# Altium footprint library ICs.PcbLib: 86 footprints (part 4 of 6)
Each footprint in its own frame and in the unit in brackets; x right, y up, seen from the top. Pads: shape width x height; smd on the part's side, far side on the other; paste and mask are expansions set on the pad; w line width, h text height; cw(c..) or ccw(c..) is an arc to the next point about the centre after c.
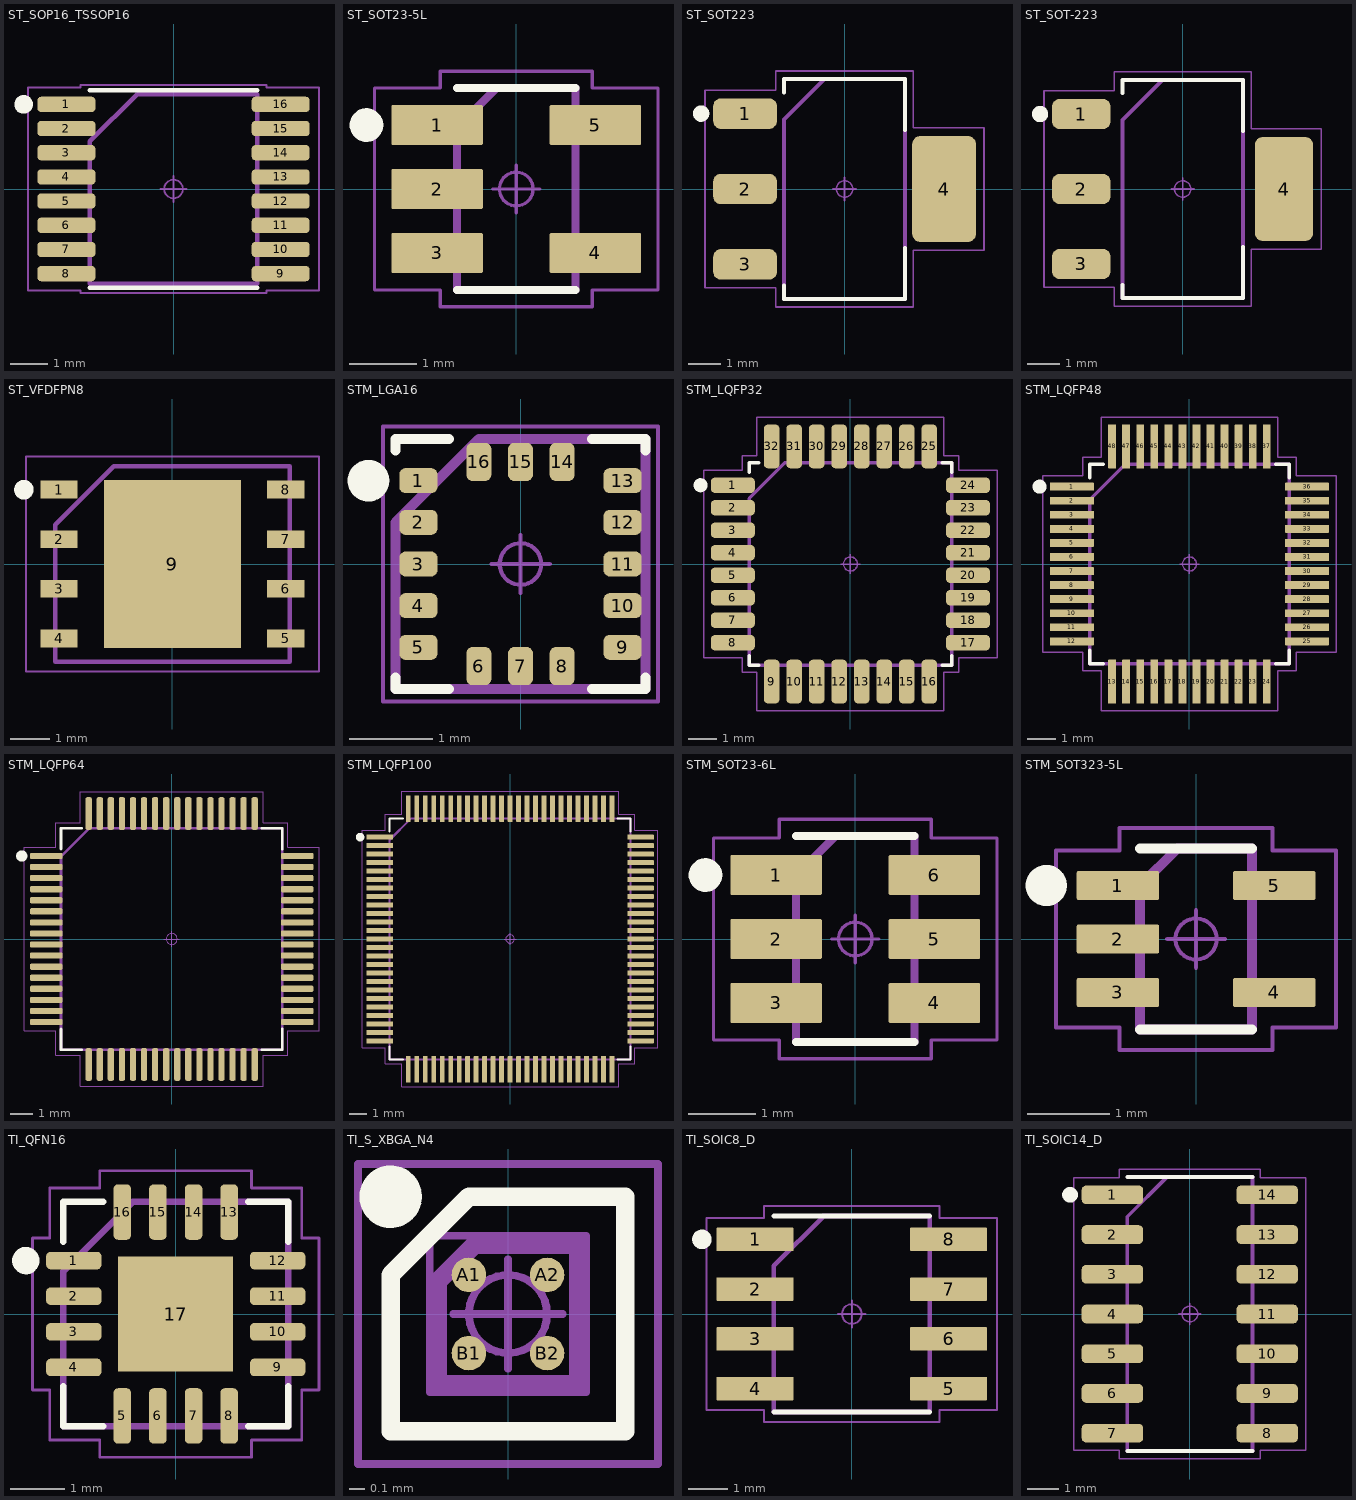
[diagram p3: the footprints below, top view; thin cyan lines are the x and y axes]

## ST_SOP16_TSSOP16 [mm]
pads (16):
  rrect49% 1.56x0.41 smd: 1(-2.88,2.275) 2(-2.88,1.625) 3(-2.88,0.975) 4(-2.88,0.325) 5(-2.88,-0.325) 6(-2.88,-0.975) 7(-2.88,-1.625) 8(-2.88,-2.275) 9(2.88,-2.275) 10(2.88,-1.625) 11(2.88,-0.975) 12(2.88,-0.325) 13(2.88,0.325) 14(2.88,0.975) 15(2.88,1.625) 16(2.88,2.275)
Top Overlay:
  circle w0.25: c-4.03,2.275 r0.125
  lines w0.12: -2.25,-2.66 2.25,-2.66 ; -2.25,2.66 2.25,2.66
Mechanical 11:
  lines w0.12: -2.25,-2.55 2.25,-2.55 2.25,2.55 -0.98,2.55 -2.25,1.28 -2.25,-2.55
  text ".Designator" at -2.252,-0.226 h1
Mechanical 15:
  circle w0.05: c0,0 r0.25
  lines w0.05: -0.35,0 0.35,0 ; 0,-0.35 0,0.35 ; -3.91,-2.73 -2.5,-2.73 -2.5,-2.8 2.5,-2.8 2.5,-2.73 3.91,-2.73 3.91,2.73 2.5,2.73 2.5,2.8 -2.5,2.8 -2.5,2.73 -3.91,2.73 -3.91,-2.73
3D body "SOP16P65_500X640X120L60X24.STEP": height 1.2, standoff 0, extent -3.3,-2.55 3.3,2.55

## ST_SOT23-5L [mm] "Small Outline Transistor (SOT23), 0.95 mm pitch; 5 pin, 2.90 mm L X 1.625 mm W X 1.45 mm H body"
pads (5):
  rrect10% 1.36x0.6 smd: 1(-1.175,0.95) 2(-1.175,0) 3(-1.175,-0.95) 4(1.175,-0.95) 5(1.175,0.95)
Top Overlay:
  circle w0.25: c-2.225,0.95 r0.125
  lines w0.12: -0.88,-1.5 0.88,-1.5 ; -0.88,1.5 0.88,1.5
Mechanical 11:
  lines w0.12: -0.88,-1.5 -0.88,0.913 -0.293,1.5 0.88,1.5 0.88,-1.5 -0.88,-1.5
  text ".Designator" at -2.252,-0.226 h1
Mechanical 15:
  circle w0.05: c0,0 r0.25
  lines w0.05: -0.35,0 0.35,0 ; 0,-0.35 0,0.35 ; -2.105,-1.5 -2.105,1.5 -1.13,1.5 -1.13,1.75 1.13,1.75 1.13,1.5 2.105,1.5 2.105,-1.5 1.13,-1.5 1.13,-1.75 -1.13,-1.75 -1.13,-1.5 -2.105,-1.5
3D body "ST_SOT23-5L.STEP": height 1.45, standoff 0, extent -1.5,-1.5 1.5,1.5

## ST_SOT223 [mm] "Small Outline Transistor (SOT223), 2.30 mm pitch; 4 pin, 6.50 mm L X 3.50 mm W X 1.90 mm H body"
pads (4):
  rrect49% 1.94x0.93 smd: 1(-3.035,2.3) 2(-3.035,0) 3(-3.035,-2.3)
  rrect24% 1.94x3.23 smd: 4(3.035,0)
Top Overlay:
  circle w0.25: c-4.375,2.3 r0.125
  lines w0.12: -1.85,-2.945 -1.85,-3.35 1.85,-3.35 1.85,-1.795 ; -1.85,2.945 -1.85,3.35 1.85,3.35 1.85,1.795
Mechanical 11:
  lines w0.12: -1.85,-3.35 1.85,-3.35 1.85,3.35 -0.617,3.35 -1.85,2.117 -1.85,-3.35
  text ".Designator" at -0.226,2.252 h1
Mechanical 15:
  circle w0.05: c0,0 r0.25
  lines w0.05: -0.35,0 0.35,0 ; 0,-0.35 0,0.35 ; -4.255,-3.015 -2.1,-3.015 -2.1,-3.6 2.1,-3.6 2.1,-1.865 4.255,-1.865 4.255,1.865 2.1,1.865 2.1,3.6 -2.1,3.6 -2.1,3.015 -4.255,3.015 -4.255,-3.015
3D body "SOT223-4P230_700X190L92X72.STEP": height 1.9, standoff 0, extent -3.5,-3.25 3.5,3.25

## ST_SOT-223 [mm]
pads (4):
  rrect49% 1.79x0.93 smd: 1(-3.11,2.3) 2(-3.11,0) 3(-3.11,-2.3)
  rrect26% 1.79x3.19 smd: 4(3.11,0)
Top Overlay:
  circle w0.25: c-4.375,2.3 r0.125
  lines w0.12: -1.85,-2.945 -1.85,-3.35 1.85,-3.35 1.85,-1.775 ; -1.85,2.945 -1.85,3.35 1.85,3.35 1.85,1.775
Mechanical 11:
  lines w0.12: -1.85,-3.35 -1.85,2.117 -0.617,3.35 1.85,3.35 1.85,-3.35 -1.85,-3.35
  text ".Designator" at -2.252,-0.193 h1
Mechanical 15:
  circle w0.05: c0,0 r0.25
  lines w0.05: -0.35,0 0.35,0 ; 0,-0.35 0,0.35 ; -4.255,-3.015 -4.255,3.015 -2.1,3.015 -2.1,3.6 2.1,3.6 2.1,1.845 4.255,1.845 4.255,-1.845 2.1,-1.845 2.1,-3.6 -2.1,-3.6 -2.1,-3.015 -4.255,-3.015
3D body "SOT223-4P230_700X180L77X75.STEP": height 1.8, standoff 0, extent -3.5,-3.25 3.5,3.25

## ST_VFDFPN8 [mm] "Case for esim"
pads (9):
  rect 0.95x0.45 smd: 1(-2.9,1.905) 2(-2.9,0.635) 3(-2.9,-0.635) 4(-2.9,-1.905) 5(2.9,-1.905) 6(2.9,-0.635) 7(2.9,0.635) 8(2.9,1.905)
  rect 3.5x4.3 smd: 9(0,0)
Top Overlay:
  circle w0.25: c-3.8,1.9 r0.125
Mechanical 11:
  lines w0.12: -3,-2.5 -3,1 -1.5,2.5 3,2.5 3,-2.5 -3,-2.5
  text ".Designator" at -2.252,-0.193 h1
Mechanical 15:
  circle w0.05: c0,0 r0.25
  lines w0.05: -0.35,0 0.35,0 ; 0,-0.35 0,0.35 ; -3.75,-2.75 -3.75,2.75 3.75,2.75 3.75,-2.75 -3.75,-2.75
3D body "ST4SIM-200M_VFDFPN8_.stp": height 1, standoff 0, extent -3.05,-2.5 3.05,2.5

## STM_LGA16 [mm] "Pullback Quad Flat No-Lead (PQFN), 0.50 mm pitch; square, 5 pin X 3 pin, 3.00 mm L X 3.00 mm W X 1.00 mm H body"
pads (16):
  rrect51% 0.46x0.3 smd: 1(-1.225,1) 2(-1.225,0.5) 3(-1.225,0) 4(-1.225,-0.5) 5(-1.225,-1) 9(1.225,-1) 10(1.225,-0.5) 11(1.225,0) 12(1.225,0.5) 13(1.225,1)
  rrect51% 0.3x0.46 smd: 6(-0.5,-1.225) 7(0,-1.225) 8(0.5,-1.225) 14(0.5,1.225) 15(0,1.225) 16(-0.5,1.225)
Top Overlay:
  circle w0.25: c-1.825,1 r0.125
  lines w0.12: -1.5,-1.36 -1.5,-1.5 -0.86,-1.5 ; -1.5,1.36 -1.5,1.5 -0.86,1.5 ; 0.86,-1.5 1.5,-1.5 1.5,-1.36 ; 0.86,1.5 1.5,1.5 1.5,1.36
Mechanical 11:
  lines w0.12: -1.5,-1.5 1.5,-1.5 1.5,1.5 -0.5,1.5 -1.5,0.5 -1.5,-1.5
  text ".Designator" at -1.126,-0.113 h0.5
Mechanical 15:
  circle w0.05: c0,0 r0.25
  lines w0.05: -0.35,0 0.35,0 ; 0,-0.35 0,0.35 ; -1.65,-1.65 -1.65,1.65 1.65,1.65 1.65,-1.65 -1.65,-1.65
3D body "STM_LGA16.STEP": height 1, standoff 0, extent -1.5,-1.5 1.5,1.5

## STM_LQFP32 [mm] "Quad Flat Pack (QFP), 0.80 mm pitch; square, 8 pin X 8 pin, 7.00 mm L X 7.00 mm W X 1.60 mm H body"
pads (32):
  rrect51% 1.56x0.55 smd: 1(-4.18,2.8) 2(-4.18,2) 3(-4.18,1.2) 4(-4.18,0.4) 5(-4.18,-0.4) 6(-4.18,-1.2) 7(-4.18,-2) 8(-4.18,-2.8) 17(4.18,-2.8) 18(4.18,-2) 19(4.18,-1.2) 20(4.18,-0.4) 21(4.18,0.4) 22(4.18,1.2) 23(4.18,2) 24(4.18,2.8)
  rrect51% 0.55x1.56 smd: 9(-2.8,-4.18) 10(-2,-4.18) 11(-1.2,-4.18) 12(-0.4,-4.18) 13(0.4,-4.18) 14(1.2,-4.18) 15(2,-4.18) 16(2.8,-4.18) 25(2.8,4.18) 26(2,4.18) 27(1.2,4.18) 28(0.4,4.18) 29(-0.4,4.18) 30(-1.2,4.18) 31(-2,4.18) 32(-2.8,4.18)
Top Overlay:
  circle w0.25: c-5.33,2.8 r0.125
  lines w0.12: -3.6,-3.26 -3.6,-3.6 -3.26,-3.6 ; -3.6,3.26 -3.6,3.6 -3.26,3.6 ; 3.26,-3.6 3.6,-3.6 3.6,-3.26 ; 3.26,3.6 3.6,3.6 3.6,3.26
Mechanical 11:
  lines w0.12: -3.6,-3.6 -3.6,2.33 -2.33,3.6 3.6,3.6 3.6,-3.6 -3.6,-3.6
  text ".Designator" at -2.252,-0.226 h1
Mechanical 15:
  circle w0.05: c0,0 r0.25
  lines w0.05: -0.35,0 0.35,0 ; 0,-0.35 0,0.35 ; -5.21,-3.325 -5.21,3.325 -3.85,3.325 -3.85,3.85 -3.325,3.85 -3.325,5.21 3.325,5.21 3.325,3.85 3.85,3.85 3.85,3.325 5.21,3.325 5.21,-3.325 3.85,-3.325 3.85,-3.85 3.325,-3.85 3.325,-5.21 -3.325,-5.21 -3.325,-3.85 -3.85,-3.85 -3.85,-3.325 -5.21,-3.325
3D body "QFP32P80_900X900X160L60X37.STEP": height 1.6, standoff 0, extent -4.6,-4.6 4.6,4.6

## STM_LQFP48 [mm] "Quad Flat Pack (QFP), 0.50 mm pitch; square, 12 pin X 12 pin, 7.00 mm L X 7.00 mm W X 1.60 mm H body"
pads (48):
  rrect10% 1.56x0.28 smd: 1(-4.18,2.75) 2(-4.18,2.25) 3(-4.18,1.75) 4(-4.18,1.25) 5(-4.18,0.75) 6(-4.18,0.25) 7(-4.18,-0.25) 8(-4.18,-0.75) 9(-4.18,-1.25) 10(-4.18,-1.75) 11(-4.18,-2.25) 12(-4.18,-2.75) 25(4.18,-2.75) 26(4.18,-2.25) 27(4.18,-1.75) 28(4.18,-1.25) 29(4.18,-0.75) 30(4.18,-0.25) 31(4.18,0.25) 32(4.18,0.75) 33(4.18,1.25) 34(4.18,1.75) 35(4.18,2.25) 36(4.18,2.75)
  rrect10% 0.28x1.56 smd: 13(-2.75,-4.18) 14(-2.25,-4.18) 15(-1.75,-4.18) 16(-1.25,-4.18) 17(-0.75,-4.18) 18(-0.25,-4.18) 19(0.25,-4.18) 20(0.75,-4.18) 21(1.25,-4.18) 22(1.75,-4.18) 23(2.25,-4.18) 24(2.75,-4.18) 37(2.75,4.18) 38(2.25,4.18) 39(1.75,4.18) 40(1.25,4.18) 41(0.75,4.18) 42(0.25,4.18) 43(-0.25,4.18) 44(-0.75,4.18) 45(-1.25,4.18) 46(-1.75,4.18) 47(-2.25,4.18) 48(-2.75,4.18)
Top Overlay:
  circle w0.25: c-5.33,2.75 r0.125
  lines w0.12: -3.55,-3.07 -3.55,-3.55 -3.07,-3.55 ; -3.55,3.07 -3.55,3.55 -3.07,3.55 ; 3.07,-3.55 3.55,-3.55 3.55,-3.07 ; 3.07,3.55 3.55,3.55 3.55,3.07
Mechanical 11:
  lines w0.12: -3.55,-3.55 -3.55,2.28 -2.28,3.55 3.55,3.55 3.55,-3.55 -3.55,-3.55
  text ".Designator" at -4.511,-0.453 h2
Mechanical 15:
  circle w0.05: c0,0 r0.25
  lines w0.05: -0.35,0 0.35,0 ; 0,-0.35 0,0.35 ; -5.21,-3.14 -5.21,3.14 -3.8,3.14 -3.8,3.8 -3.14,3.8 -3.14,5.21 3.14,5.21 3.14,3.8 3.8,3.8 3.8,3.14 5.21,3.14 5.21,-3.14 3.8,-3.14 3.8,-3.8 3.14,-3.8 3.14,-5.21 -3.14,-5.21 -3.14,-3.8 -3.8,-3.8 -3.8,-3.14 -5.21,-3.14
3D body "WIZNET_LQFP48.STEP": height 1.6, standoff 0, extent -4.6,-4.6 4.6,4.6

## STM_LQFP64 [mm] "Quad Flat Pack (QFP), 0.50 mm pitch; square, 16 pin X 16 pin, 10.00 mm L X 10.00 mm W X 1.60 mm H body"
pads (64):
  rrect50% 1.47x0.28 smd: 1(-5.67,3.75) 2(-5.67,3.25) 3(-5.67,2.75) 4(-5.67,2.25) 5(-5.67,1.75) 6(-5.67,1.25) 7(-5.67,0.75) 8(-5.67,0.25) 9(-5.67,-0.25) 10(-5.67,-0.75) 11(-5.67,-1.25) 12(-5.67,-1.75) 13(-5.67,-2.25) 14(-5.67,-2.75) 15(-5.67,-3.25) 16(-5.67,-3.75) 33(5.67,-3.75) 34(5.67,-3.25) 35(5.67,-2.75) 36(5.67,-2.25) 37(5.67,-1.75) 38(5.67,-1.25) 39(5.67,-0.75) 40(5.67,-0.25) 41(5.67,0.25) 42(5.67,0.75) 43(5.67,1.25) 44(5.67,1.75) 45(5.67,2.25) 46(5.67,2.75) 47(5.67,3.25) 48(5.67,3.75)
  rrect50% 0.28x1.47 smd: 17(-3.75,-5.67) 18(-3.25,-5.67) 19(-2.75,-5.67) 20(-2.25,-5.67) 21(-1.75,-5.67) 22(-1.25,-5.67) 23(-0.75,-5.67) 24(-0.25,-5.67) 25(0.25,-5.67) 26(0.75,-5.67) 27(1.25,-5.67) 28(1.75,-5.67) 29(2.25,-5.67) 30(2.75,-5.67) 31(3.25,-5.67) 32(3.75,-5.67) 49(3.75,5.67) 50(3.25,5.67) 51(2.75,5.67) 52(2.25,5.67) 53(1.75,5.67) 54(1.25,5.67) 55(0.75,5.67) 56(0.25,5.67) 57(-0.25,5.67) 58(-0.75,5.67) 59(-1.25,5.67) 60(-1.75,5.67) 61(-2.25,5.67) 62(-2.75,5.67) 63(-3.25,5.67) 64(-3.75,5.67)
Top Overlay:
  circle w0.25: c-6.775,3.75 r0.125
  lines w0.12: -5,-4.07 -5,-5 -4.07,-5 ; -5,4.07 -5,5 -4.07,5 ; 4.07,-5 5,-5 5,-4.07 ; 4.07,5 5,5 5,4.07
Mechanical 11:
  lines w0.12: -5,-5 -5,3.73 -3.73,5 5,5 5,-5 -5,-5
  text ".Designator" at -4.511,-0.453 h2
Mechanical 15:
  circle w0.05: c0,0 r0.25
  lines w0.05: -0.35,0 0.35,0 ; 0,-0.35 0,0.35 ; -6.655,-4.14 -6.655,4.14 -5.25,4.14 -5.25,5.25 -4.14,5.25 -4.14,6.655 4.14,6.655 4.14,5.25 5.25,5.25 5.25,4.14 6.655,4.14 6.655,-4.14 5.25,-4.14 5.25,-5.25 4.14,-5.25 4.14,-6.655 -4.14,-6.655 -4.14,-5.25 -5.25,-5.25 -5.25,-4.14 -6.655,-4.14
3D body "QFP64P50_1200X1200X160L60X22.STEP": height 1.6, standoff 0, extent -6,-6 6,6

## STM_LQFP100 [mm] "Quad Flat Pack (QFP), 0.50 mm pitch; square, 25 pin X 25 pin, 14.00 mm L X 14.00 mm W X 1.60 mm H body"
pads (100):
  rrect10% 1.56x0.28 smd: 1(-7.68,6) 2(-7.68,5.5) 3(-7.68,5) 4(-7.68,4.5) 5(-7.68,4) 6(-7.68,3.5) 7(-7.68,3) 8(-7.68,2.5) 9(-7.68,2) 10(-7.68,1.5) 11(-7.68,1) 12(-7.68,0.5) 13(-7.68,0) 14(-7.68,-0.5) 15(-7.68,-1) 16(-7.68,-1.5) 17(-7.68,-2) 18(-7.68,-2.5) 19(-7.68,-3) 20(-7.68,-3.5) 21(-7.68,-4) 22(-7.68,-4.5) 23(-7.68,-5) 24(-7.68,-5.5) 25(-7.68,-6) 51(7.68,-6) 52(7.68,-5.5) 53(7.68,-5) 54(7.68,-4.5) 55(7.68,-4) 56(7.68,-3.5) 57(7.68,-3) 58(7.68,-2.5) 59(7.68,-2) 60(7.68,-1.5) 61(7.68,-1) 62(7.68,-0.5) 63(7.68,0) 64(7.68,0.5) 65(7.68,1) 66(7.68,1.5) 67(7.68,2) 68(7.68,2.5) 69(7.68,3) 70(7.68,3.5) 71(7.68,4) 72(7.68,4.5) 73(7.68,5) 74(7.68,5.5) 75(7.68,6)
  rrect10% 0.28x1.56 smd: 26(-6,-7.68) 27(-5.5,-7.68) 28(-5,-7.68) 29(-4.5,-7.68) 30(-4,-7.68) 31(-3.5,-7.68) 32(-3,-7.68) 33(-2.5,-7.68) 34(-2,-7.68) 35(-1.5,-7.68) 36(-1,-7.68) 37(-0.5,-7.68) 38(0,-7.68) 39(0.5,-7.68) 40(1,-7.68) 41(1.5,-7.68) 42(2,-7.68) 43(2.5,-7.68) 44(3,-7.68) 45(3.5,-7.68) 46(4,-7.68) 47(4.5,-7.68) 48(5,-7.68) 49(5.5,-7.68) 50(6,-7.68) 76(6,7.68) 77(5.5,7.68) 78(5,7.68) 79(4.5,7.68) 80(4,7.68) 81(3.5,7.68) 82(3,7.68) 83(2.5,7.68) 84(2,7.68) 85(1.5,7.68) 86(1,7.68) 87(0.5,7.68) 88(0,7.68) 89(-0.5,7.68) 90(-1,7.68) 91(-1.5,7.68) 92(-2,7.68) 93(-2.5,7.68) 94(-3,7.68) 95(-3.5,7.68) 96(-4,7.68) 97(-4.5,7.68) 98(-5,7.68) 99(-5.5,7.68) 100(-6,7.68)
Top Overlay:
  circle w0.25: c-8.83,6 r0.125
  lines w0.12: -7.1,-6.32 -7.1,-7.1 -6.32,-7.1 ; -7.1,6.32 -7.1,7.1 -6.32,7.1 ; 6.32,-7.1 7.1,-7.1 7.1,-6.32 ; 6.32,7.1 7.1,7.1 7.1,6.32
Mechanical 11:
  lines w0.12: -7.1,-7.1 -7.1,5.83 -5.83,7.1 7.1,7.1 7.1,-7.1 -7.1,-7.1
  text ".Designator" at -4.511,-0.453 h2
Mechanical 15:
  circle w0.05: c0,0 r0.25
  lines w0.05: -0.35,0 0.35,0 ; 0,-0.35 0,0.35 ; -8.71,-6.39 -8.71,6.39 -7.35,6.39 -7.35,7.35 -6.39,7.35 -6.39,8.71 6.39,8.71 6.39,7.35 7.35,7.35 7.35,6.39 8.71,6.39 8.71,-6.39 7.35,-6.39 7.35,-7.35 6.39,-7.35 6.39,-8.71 -6.39,-8.71 -6.39,-7.35 -7.35,-7.35 -7.35,-6.39 -8.71,-6.39
3D body "STM_LQFP100.STEP": height 1.6, standoff 0, extent -8.1,-8.1 8.1,8.1

## STM_SOT23-6L [mm] "Small Outline Transistor (SOT23), 0.95 mm pitch; 6 pin, 2.925 mm L X 1.625 mm W X 1.45 mm H body"
pads (6):
  rrect10% 1.36x0.6 smd: 1(-1.175,0.95) 2(-1.175,0) 3(-1.175,-0.95) 4(1.175,-0.95) 5(1.175,0) 6(1.175,0.95)
Top Overlay:
  circle w0.25: c-2.225,0.95 r0.125
  lines w0.12: -0.88,-1.53 0.88,-1.53 ; -0.88,1.53 0.88,1.53
Mechanical 11:
  lines w0.12: -0.88,-1.53 -0.88,0.943 -0.293,1.53 0.88,1.53 0.88,-1.53 -0.88,-1.53
  text ".Designator" at -2.252,-0.226 h1
Mechanical 15:
  circle w0.05: c0,0 r0.25
  lines w0.05: -0.35,0 0.35,0 ; 0,-0.35 0,0.35 ; -2.105,-1.5 -2.105,1.5 -1.13,1.5 -1.13,1.78 1.13,1.78 1.13,1.5 2.105,1.5 2.105,-1.5 1.13,-1.5 1.13,-1.78 -1.13,-1.78 -1.13,-1.5 -2.105,-1.5
3D body "STM_SOT23-6.STEP": height 1.45, standoff 0, extent -1.5,-1.525 1.5,1.525

## STM_SOT323-5L [mm] "Small Outline Transistor (SOT23), 0.65 mm pitch; 5 pin, 2.00 mm L X 1.25 mm W X 1.10 mm H body"
pads (5):
  rrect10% 1x0.35 smd: 1(-0.95,0.65) 2(-0.95,0) 3(-0.95,-0.65) 4(0.95,-0.65) 5(0.95,0.65)
Top Overlay:
  circle w0.25: c-1.82,0.65 r0.125
  lines w0.12: -0.68,-1.1 0.68,-1.1 ; -0.68,1.1 0.68,1.1
Mechanical 11:
  lines w0.12: -0.68,-1.1 0.68,-1.1 0.68,1.1 -0.227,1.1 -0.68,0.647 -0.68,-1.1
  text ".Designator" at -2.252,-0.226 h1
Mechanical 15:
  circle w0.05: c0,0 r0.25
  lines w0.05: -0.35,0 0.35,0 ; 0,-0.35 0,0.35 ; -1.7,-1.075 -0.93,-1.075 -0.93,-1.35 0.93,-1.35 0.93,-1.075 1.7,-1.075 1.7,1.075 0.93,1.075 0.93,1.35 -0.93,1.35 -0.93,1.075 -1.7,1.075 -1.7,-1.075
3D body "STM_SOT323-5.STEP": height 1.1, standoff 0, extent -1.2,-1.1 1.2,1.1

## TI_QFN16 [mm] "Quad Flat No-Lead (QFN with Tab), 0.65 mm pitch; square, 4 pin X 4 pin, 4.00 mm L X 4.00 mm W X 0.90 mm H body"
pads (17):
  rrect50% 1.01x0.32 smd: 1(-1.86,0.975) 2(-1.86,0.325) 3(-1.86,-0.325) 4(-1.86,-0.975) 9(1.86,-0.975) 10(1.86,-0.325) 11(1.86,0.325) 12(1.86,0.975)
  rrect50% 0.32x1.01 smd: 5(-0.975,-1.86) 6(-0.325,-1.86) 7(0.325,-1.86) 8(0.975,-1.86) 13(0.975,1.86) 14(0.325,1.86) 15(-0.325,1.86) 16(-0.975,1.86)
  rect 2.1x2.1 smd paste-2.1: 17(0,0)
Top Overlay:
  circle w0.25: c-2.735,0.975 r0.125
  lines w0.12: -2.05,-1.32 -2.05,-2.05 -1.32,-2.05 ; -2.05,1.32 -2.05,2.05 -1.32,2.05 ; 1.32,-2.05 2.05,-2.05 2.05,-1.32 ; 1.32,2.05 2.05,2.05 2.05,1.32
Top Paste:
  region: -0.845,-0.845 -0.845,-0.105 -0.105,-0.105 -0.105,-0.845
  region: 0.105,-0.845 0.105,-0.105 0.845,-0.105 0.845,-0.845
  region: -0.845,0.105 -0.845,0.845 -0.105,0.845 -0.105,0.105
  region: 0.105,0.105 0.105,0.845 0.845,0.845 0.845,0.105
Mechanical 11:
  lines w0.12: -2.05,-2.05 -2.05,0.78 -0.78,2.05 2.05,2.05 2.05,-2.05 -2.05,-2.05
  text ".Designator" at -2.252,-0.226 h1
Mechanical 15:
  circle w0.05: c0,0 r0.25
  lines w0.05: -0.35,0 0.35,0 ; 0,-0.35 0,0.35 ; -2.615,-1.385 -2.615,1.385 -2.3,1.385 -2.3,2.3 -1.385,2.3 -1.385,2.615 1.385,2.615 1.385,2.3 2.3,2.3 2.3,1.385 2.615,1.385 2.615,-1.385 2.3,-1.385 2.3,-2.3 1.385,-2.3 1.385,-2.615 -1.385,-2.615 -1.385,-2.3 -2.3,-2.3 -2.3,-1.385 -2.615,-1.385
3D body "QFN17P65_400X400X90L55X30T210.STEP": height 0.9, standoff 0, extent -2.05,-2.05 2.05,2.05

## TI_S_XBGA_N4 [mm]
pads (4):
  round 0.221 smd: A1(-0.25,0.25) A2(0.25,0.25) B1(-0.25,-0.25) B2(0.25,-0.25)
Top Overlay:
  circle w0.2: c-0.75,0.75 r0.1
  lines w0.12: -0.75,-0.75 0.75,-0.75 0.75,0.75 -0.25,0.75 -0.75,0.25 -0.75,-0.75
Mechanical 11:
  lines w0.12: -0.45,-0.45 -0.45,0.208 -0.214,0.444 0.444,0.444 0.45,0.438 0.45,-0.45 -0.45,-0.45
  text ".Designator" at -0.338,-0.034 h0.15
Mechanical 15:
  circle w0.05: c0,0 r0.25
  lines w0.05: -0.35,0 0.35,0 ; 0,-0.35 0,0.35 ; -0.5,-0.5 -0.5,0.5 0.5,0.5 0.5,-0.5 -0.5,-0.5
Mechanical 20:
  lines w0.05: -0.959,-0.959 -0.959,0.959 0.959,0.959 0.959,-0.959 -0.959,-0.959
3D body "TPS22910AYZVT.stp": height 0.5, standoff 0, extent -0.444,-0.444 0.444,0.444

## TI_SOIC8_D [mm] "Small Outline IC (SOIC), 1.27 mm pitch; 8 pin, 4.90 mm L X 3.895 mm W X 1.75 mm H body"
pads (8):
  rrect10% 1.97x0.6 smd: 1(-2.47,1.905) 2(-2.47,0.635) 3(-2.47,-0.635) 4(-2.47,-1.905) 5(2.47,-1.905) 6(2.47,-0.635) 7(2.47,0.635) 8(2.47,1.905)
Top Overlay:
  circle w0.25: c-3.825,1.905 r0.125
  lines w0.12: -1.99,-2.5 1.99,-2.5 ; -1.99,2.5 1.99,2.5
Mechanical 11:
  lines w0.12: -1.99,-2.5 1.99,-2.5 1.99,2.5 -0.72,2.5 -1.99,1.23 -1.99,-2.5
  text ".Designator" at -2.252,-0.226 h1
Mechanical 15:
  circle w0.05: c0,0 r0.25
  lines w0.05: -0.35,0 0.35,0 ; 0,-0.35 0,0.35 ; -3.705,-2.455 -2.24,-2.455 -2.24,-2.75 2.24,-2.75 2.24,-2.455 3.705,-2.455 3.705,2.455 2.24,2.455 2.24,2.75 -2.24,2.75 -2.24,2.455 -3.705,2.455 -3.705,-2.455
3D body "TI_SOIC8_D.STEP": height 1.75, standoff 0, extent -3.095,-2.5 3.095,2.5

## TI_SOIC14_D [mm] "Small Outline IC (SOIC), 1.27 mm pitch; 14 pin, 8.65 mm L X 3.90 mm W X 1.78 mm H body"
pads (14):
  rrect50% 1.97x0.6 smd: 1(-2.475,3.81) 2(-2.475,2.54) 3(-2.475,1.27) 4(-2.475,0) 5(-2.475,-1.27) 6(-2.475,-2.54) 7(-2.475,-3.81) 8(2.475,-3.81) 9(2.475,-2.54) 10(2.475,-1.27) 11(2.475,0) 12(2.475,1.27) 13(2.475,2.54) 14(2.475,3.81)
Top Overlay:
  circle w0.25: c-3.83,3.81 r0.125
  lines w0.12: -2,-4.38 2,-4.38 ; -2,4.38 2,4.38
Mechanical 11:
  lines w0.12: -2,-4.38 2,-4.38 2,4.38 -0.73,4.38 -2,3.11 -2,-4.38
  text ".Designator" at -2.252,-0.226 h1
Mechanical 15:
  circle w0.05: c0,0 r0.25
  lines w0.05: -0.35,0 0.35,0 ; 0,-0.35 0,0.35 ; -3.71,-4.36 -2.25,-4.36 -2.25,-4.63 2.25,-4.63 2.25,-4.36 3.71,-4.36 3.71,4.36 2.25,4.36 2.25,4.63 -2.25,4.63 -2.25,4.36 -3.71,4.36 -3.71,-4.36
3D body "TI_SOIC14_D.STEP": height 1.78, standoff 0, extent -3.1,-4.375 3.1,4.375
3D body: height 0.25, standoff 0, extent 0,0 0.254,0.254